# Altium footprint library Power Modules.PcbLib: 1 footprints
Each footprint in its own frame and in the unit in brackets; x right, y up, seen from the top. Pads: shape width x height; smd on the part's side, far side on the other; paste and mask are expansions set on the pad; w line width, h text height; cw(c..) or ccw(c..) is an arc to the next point about the centre after c.
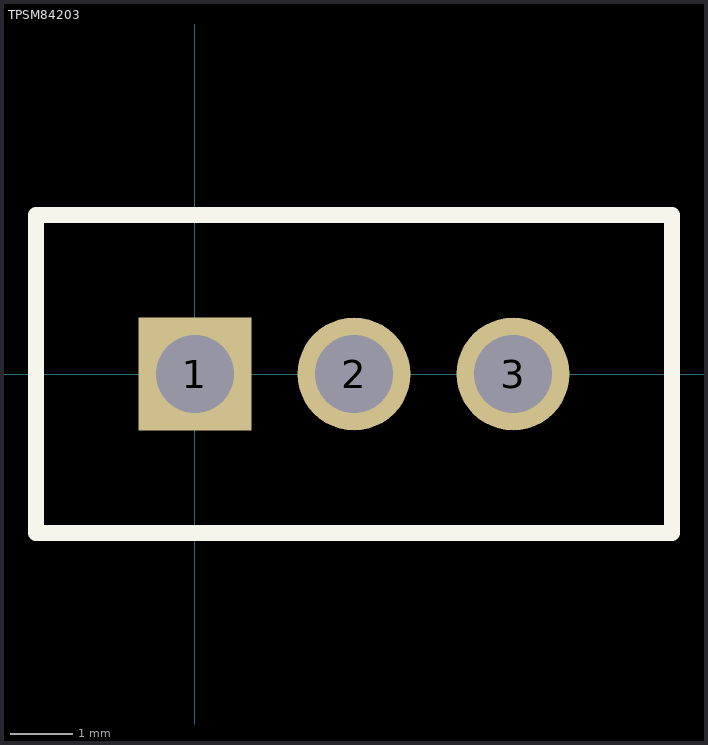
[diagram p0: the footprint, top view; thin cyan lines are the x and y axes]

## TPSM84203 [mm] "1.5A, 28V Input, 3.3V Output, TO-220 Power Module"
height 11.1
pads (3):
  rect 1.8x1.8 hole 1.25 paste+0.1 mask+0.102: 1(0,0)
  round 1.8 hole 1.25 paste+0.1 mask+0.102: 2(2.54,0) 3(5.08,0)
Top Overlay:
  lines w0.254: -2.54,-2.54 7.62,-2.54 7.62,2.54 -2.54,2.54 -2.54,-2.54